# Altium footprint library IND72R80X110.PcbLib: 1 footprints
Each footprint in its own frame and in the unit in brackets; x right, y up, seen from the top. Pads: shape width x height; smd on the part's side, far side on the other; paste and mask are expansions set on the pad; w line width, h text height; cw(c..) or ccw(c..) is an arc to the next point about the centre after c.
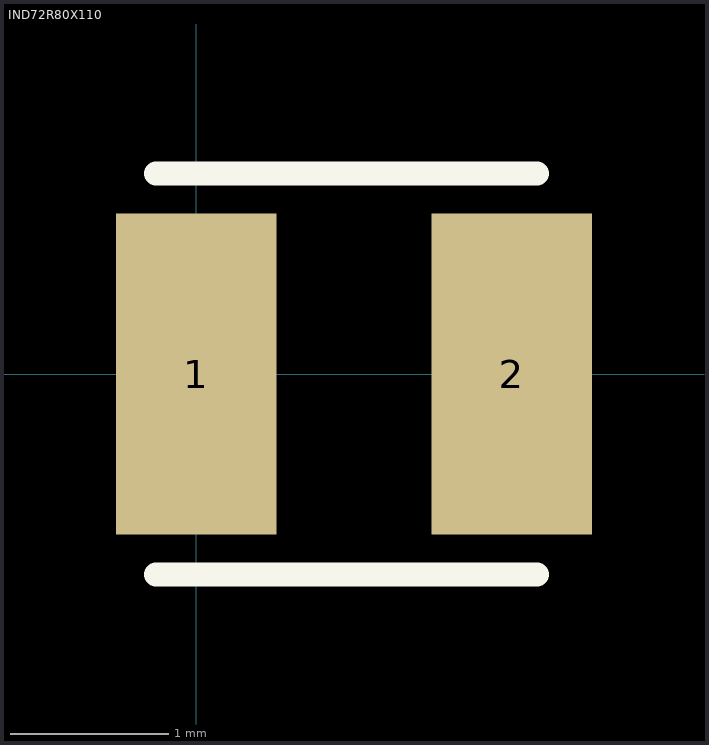
[diagram p0: the footprint, top view; thin cyan lines are the x and y axes]

## IND72R80X110 [mil] "Inductor"
height 78.74
pads (2):
  rect 40x80 smd: 1(0,0) 2(78.74,0)
Top Overlay:
  lines w6: -10,-50 85,-50 ; -10,50 85,50
3D body: height 39.37, standoff 0, extent -15,-40 95,40